# Altium footprint library TQFP.PcbLib: 9 footprints
Each footprint in its own frame and in the unit in brackets; x right, y up, seen from the top. Pads: shape width x height; smd on the part's side, far side on the other; paste and mask are expansions set on the pad; w line width, h text height; cw(c..) or ccw(c..) is an arc to the next point about the centre after c.
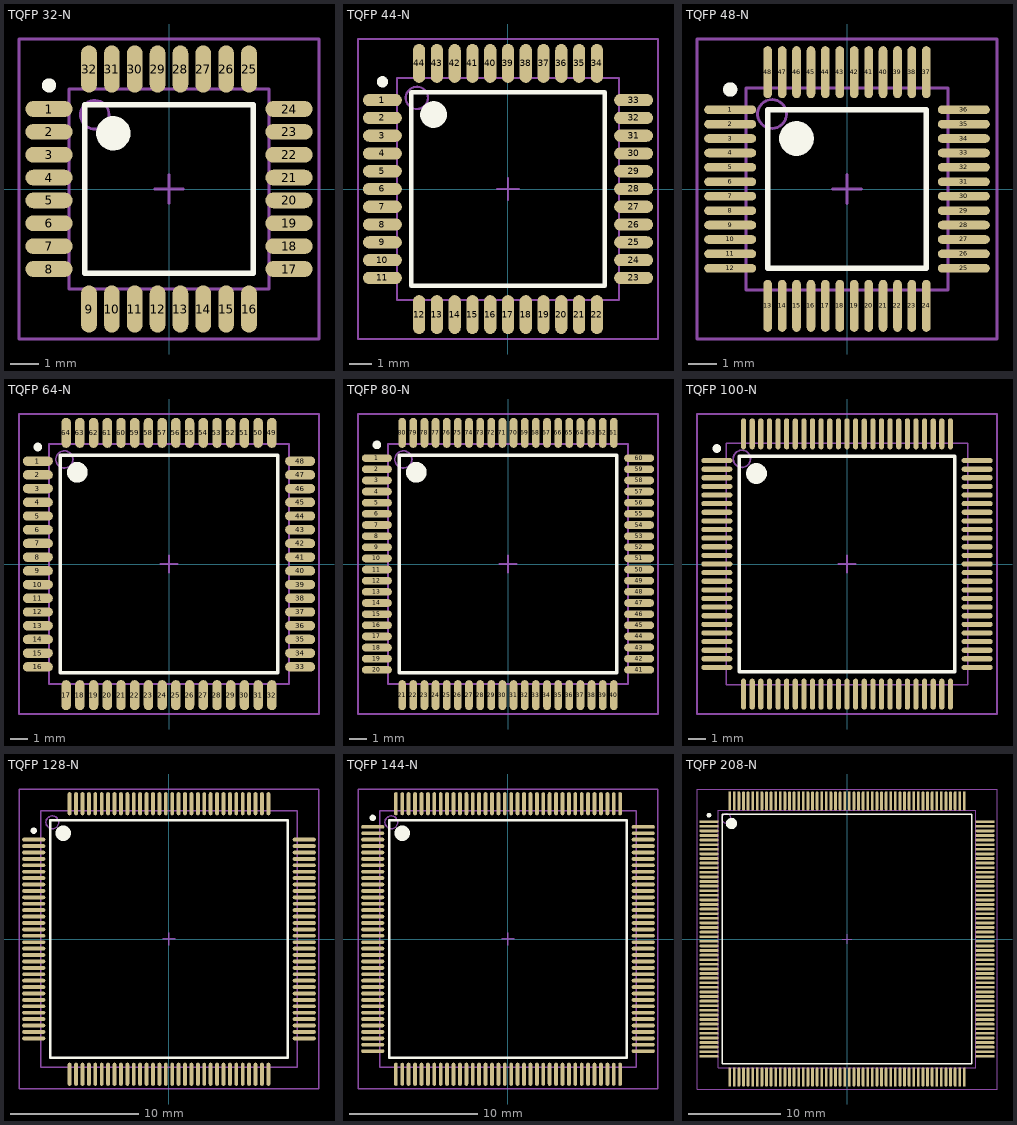
[diagram p0: the footprints below, top view; thin cyan lines are the x and y axes]

## TQFP 32-N [mm] "32-Pin Thin Quad Flat Pack 0.8 mm Pitch, IPC Medium Density"
height 1.2
pads (32):
  oval 1.65x0.55 smd: 1(-4.2,2.8) 2(-4.2,2) 3(-4.2,1.2) 4(-4.2,0.4) 5(-4.2,-0.4) 6(-4.2,-1.2) 7(-4.2,-2) 8(-4.2,-2.8) 17(4.2,-2.8) 18(4.2,-2) 19(4.2,-1.2) 20(4.2,-0.4) 21(4.2,0.4) 22(4.2,1.2) 23(4.2,2) 24(4.2,2.8)
  oval 0.55x1.65 smd: 9(-2.8,-4.2) 10(-2,-4.2) 11(-1.2,-4.2) 12(-0.4,-4.2) 13(0.4,-4.2) 14(1.2,-4.2) 15(2,-4.2) 16(2.8,-4.2) 25(2.8,4.2) 26(2,4.2) 27(1.2,4.2) 28(0.4,4.2) 29(-0.4,4.2) 30(-1.2,4.2) 31(-2,4.2) 32(-2.8,4.2)
Top Overlay:
  circle w0.25: c-4.2,3.625 r0.125
  circle w0.6: c-1.95,1.95 r0.3
  lines w0.2: -2.95,-2.95 -2.95,2.95 2.95,2.95 2.95,-2.95 -2.95,-2.95
Mechanical 13:
  circle w0.1: c-2.6,2.6 r0.5
  lines w0.1: -3.5,-3.5 -3.5,3.5 3.5,3.5 3.5,-3.5 -3.5,-3.5
Mechanical 15:
  lines w0.1: -0.5,0 0.5,0 ; 0,-0.5 0,0.5 ; -5.25,-5.25 -5.25,5.25 5.25,5.25 5.25,-5.25 -5.25,-5.25
3D body "User Library-TQFP32-1.step": height 1.1, standoff 0, extent -4.509,-4.509 4.509,4.509

## TQFP 44-N [mm] "44-Pin Thin Quad Flat Pack 0.8 mm Pitch, IPC Medium Density"
height 1.2
pads (44):
  oval 1.75x0.55 smd: 1(-5.65,4) 2(-5.65,3.2) 3(-5.65,2.4) 4(-5.65,1.6) 5(-5.65,0.8) 6(-5.65,0) 7(-5.65,-0.8) 8(-5.65,-1.6) 9(-5.65,-2.4) 10(-5.65,-3.2) 11(-5.65,-4) 23(5.65,-4) 24(5.65,-3.2) 25(5.65,-2.4) 26(5.65,-1.6) 27(5.65,-0.8) 28(5.65,0) 29(5.65,0.8) 30(5.65,1.6) 31(5.65,2.4) 32(5.65,3.2) 33(5.65,4)
  oval 0.55x1.75 smd: 12(-4,-5.65) 13(-3.2,-5.65) 14(-2.4,-5.65) 15(-1.6,-5.65) 16(-0.8,-5.65) 17(0,-5.65) 18(0.8,-5.65) 19(1.6,-5.65) 20(2.4,-5.65) 21(3.2,-5.65) 22(4,-5.65) 34(4,5.65) 35(3.2,5.65) 36(2.4,5.65) 37(1.6,5.65) 38(0.8,5.65) 39(0,5.65) 40(-0.8,5.65) 41(-1.6,5.65) 42(-2.4,5.65) 43(-3.2,5.65) 44(-4,5.65)
Top Overlay:
  circle w0.6: c-3.35,3.35 r0.3
  circle w0.25: c-5.65,4.825 r0.125
  lines w0.2: -4.35,-4.35 4.35,-4.35 4.35,4.35 -4.35,4.35 -4.35,-4.35
Mechanical 13:
  circle w0.1: c-4.1,4.1 r0.5
  lines w0.1: -5,-5 5,-5 5,5 -5,5 -5,-5
Mechanical 15:
  lines w0.1: -0.5,0 0.5,0 ; 0,-0.5 0,0.5 ; -6.75,-6.75 6.75,-6.75 6.75,6.75 -6.75,6.75 -6.75,-6.75
3D body "User Library-TQFP44-1.step": height 1.1, standoff 0, extent -6.009,-6.009 6.009,6.009

## TQFP 48-N [mm] "48-Pin Thin Quad Flat Pack 0.5 mm Pitch, IPC Medium Density"
height 1.6
pads (48):
  oval 1.8x0.3 smd: 1(-4.05,2.75) 2(-4.05,2.25) 3(-4.05,1.75) 4(-4.05,1.25) 5(-4.05,0.75) 6(-4.05,0.25) 7(-4.05,-0.25) 8(-4.05,-0.75) 9(-4.05,-1.25) 10(-4.05,-1.75) 11(-4.05,-2.25) 12(-4.05,-2.75) 25(4.05,-2.75) 26(4.05,-2.25) 27(4.05,-1.75) 28(4.05,-1.25) 29(4.05,-0.75) 30(4.05,-0.25) 31(4.05,0.25) 32(4.05,0.75) 33(4.05,1.25) 34(4.05,1.75) 35(4.05,2.25) 36(4.05,2.75)
  oval 0.3x1.8 smd: 13(-2.75,-4.05) 14(-2.25,-4.05) 15(-1.75,-4.05) 16(-1.25,-4.05) 17(-0.75,-4.05) 18(-0.25,-4.05) 19(0.25,-4.05) 20(0.75,-4.05) 21(1.25,-4.05) 22(1.75,-4.05) 23(2.25,-4.05) 24(2.75,-4.05) 37(2.75,4.05) 38(2.25,4.05) 39(1.75,4.05) 40(1.25,4.05) 41(0.75,4.05) 42(0.25,4.05) 43(-0.25,4.05) 44(-0.75,4.05) 45(-1.25,4.05) 46(-1.75,4.05) 47(-2.25,4.05) 48(-2.75,4.05)
Top Overlay:
  circle w0.25: c-4.05,3.45 r0.125
  circle w0.6: c-1.75,1.75 r0.3
  lines w0.2: -2.75,-2.75 -2.75,2.75 2.75,2.75 2.75,-2.75 -2.75,-2.75
Mechanical 13:
  circle w0.1: c-2.6,2.6 r0.5
  lines w0.1: -3.5,-3.5 -3.5,3.5 3.5,3.5 3.5,-3.5 -3.5,-3.5
Mechanical 15:
  lines w0.1: -0.5,0 0.5,0 ; 0,-0.5 0,0.5 ; -5.2,-5.2 -5.2,5.2 5.2,5.2 5.2,-5.2 -5.2,-5.2
3D body "User Library-TQFP48.step": height 1.1, standoff 0, extent -4.509,-4.509 4.509,4.509

## TQFP 64-N [mm] "64-Pin Thin Quad Flat Pack 0.8 mm Pitch, IPC Medium Density"
height 1.2
pads (64):
  oval 1.75x0.55 smd: 1(-7.65,6) 2(-7.65,5.2) 3(-7.65,4.4) 4(-7.65,3.6) 5(-7.65,2.8) 6(-7.65,2) 7(-7.65,1.2) 8(-7.65,0.4) 9(-7.65,-0.4) 10(-7.65,-1.2) 11(-7.65,-2) 12(-7.65,-2.8) 13(-7.65,-3.6) 14(-7.65,-4.4) 15(-7.65,-5.2) 16(-7.65,-6) 33(7.65,-6) 34(7.65,-5.2) 35(7.65,-4.4) 36(7.65,-3.6) 37(7.65,-2.8) 38(7.65,-2) 39(7.65,-1.2) 40(7.65,-0.4) 41(7.65,0.4) 42(7.65,1.2) 43(7.65,2) 44(7.65,2.8) 45(7.65,3.6) 46(7.65,4.4) 47(7.65,5.2) 48(7.65,6)
  oval 0.55x1.75 smd: 17(-6,-7.65) 18(-5.2,-7.65) 19(-4.4,-7.65) 20(-3.6,-7.65) 21(-2.8,-7.65) 22(-2,-7.65) 23(-1.2,-7.65) 24(-0.4,-7.65) 25(0.4,-7.65) 26(1.2,-7.65) 27(2,-7.65) 28(2.8,-7.65) 29(3.6,-7.65) 30(4.4,-7.65) 31(5.2,-7.65) 32(6,-7.65) 49(6,7.65) 50(5.2,7.65) 51(4.4,7.65) 52(3.6,7.65) 53(2.8,7.65) 54(2,7.65) 55(1.2,7.65) 56(0.4,7.65) 57(-0.4,7.65) 58(-1.2,7.65) 59(-2,7.65) 60(-2.8,7.65) 61(-3.6,7.65) 62(-4.4,7.65) 63(-5.2,7.65) 64(-6,7.65)
Top Overlay:
  circle w0.6: c-5.35,5.35 r0.3
  circle w0.25: c-7.65,6.825 r0.125
  lines w0.2: -6.35,-6.35 6.35,-6.35 6.35,6.35 -6.35,6.35 -6.35,-6.35
Mechanical 13:
  circle w0.1: c-6.1,6.1 r0.5
  lines w0.1: -7,-7 7,-7 7,7 -7,7 -7,-7
Mechanical 15:
  lines w0.1: -0.5,0 0.5,0 ; 0,-0.5 0,0.5 ; -8.75,-8.75 8.75,-8.75 8.75,8.75 -8.75,8.75 -8.75,-8.75
3D body "User Library-TQFP64-5.STEP": height 1.1, standoff 0, extent -8,-8 8,8

## TQFP 80-N [mm] "80-Pin Thin Quad Flat Pack 0.65 mm Pitch, IPC Medium Density"
height 1.6
pads (80):
  oval 1.75x0.45 smd: 1(-7.65,6.175) 2(-7.65,5.525) 3(-7.65,4.875) 4(-7.65,4.225) 5(-7.65,3.575) 6(-7.65,2.925) 7(-7.65,2.275) 8(-7.65,1.625) 9(-7.65,0.975) 10(-7.65,0.325) 11(-7.65,-0.325) 12(-7.65,-0.975) 13(-7.65,-1.625) 14(-7.65,-2.275) 15(-7.65,-2.925) 16(-7.65,-3.575) 17(-7.65,-4.225) 18(-7.65,-4.875) 19(-7.65,-5.525) 20(-7.65,-6.175) 41(7.65,-6.175) 42(7.65,-5.525) 43(7.65,-4.875) 44(7.65,-4.225) 45(7.65,-3.575) 46(7.65,-2.925) 47(7.65,-2.275) 48(7.65,-1.625) 49(7.65,-0.975) 50(7.65,-0.325) 51(7.65,0.325) 52(7.65,0.975) 53(7.65,1.625) 54(7.65,2.275) 55(7.65,2.925) 56(7.65,3.575) 57(7.65,4.225) 58(7.65,4.875) 59(7.65,5.525) 60(7.65,6.175)
  oval 0.45x1.75 smd: 21(-6.175,-7.65) 22(-5.525,-7.65) 23(-4.875,-7.65) 24(-4.225,-7.65) 25(-3.575,-7.65) 26(-2.925,-7.65) 27(-2.275,-7.65) 28(-1.625,-7.65) 29(-0.975,-7.65) 30(-0.325,-7.65) 31(0.325,-7.65) 32(0.975,-7.65) 33(1.625,-7.65) 34(2.275,-7.65) 35(2.925,-7.65) 36(3.575,-7.65) 37(4.225,-7.65) 38(4.875,-7.65) 39(5.525,-7.65) 40(6.175,-7.65) 61(6.175,7.65) 62(5.525,7.65) 63(4.875,7.65) 64(4.225,7.65) 65(3.575,7.65) 66(2.925,7.65) 67(2.275,7.65) 68(1.625,7.65) 69(0.975,7.65) 70(0.325,7.65) 71(-0.325,7.65) 72(-0.975,7.65) 73(-1.625,7.65) 74(-2.275,7.65) 75(-2.925,7.65) 76(-3.575,7.65) 77(-4.225,7.65) 78(-4.875,7.65) 79(-5.525,7.65) 80(-6.175,7.65)
Top Overlay:
  circle w0.6: c-5.35,5.35 r0.3
  circle w0.25: c-7.65,6.95 r0.125
  lines w0.2: -6.35,-6.35 6.35,-6.35 6.35,6.35 -6.35,6.35 -6.35,-6.35
Mechanical 13:
  circle w0.1: c-6.1,6.1 r0.5
  lines w0.1: -7,-7 7,-7 7,7 -7,7 -7,-7
Mechanical 15:
  lines w0.1: -0.5,0 0.5,0 ; 0,-0.5 0,0.5 ; -8.75,-8.75 8.75,-8.75 8.75,8.75 -8.75,8.75 -8.75,-8.75

## TQFP 100-N [mm] "100-Pin Plastic Thin Quad Flat Pack (TQFP100), IPC Medium Density"
height 1.2
pads (100):
  oval 1.8x0.3 smd: 1(-7.55,6) 2(-7.55,5.5) 3(-7.55,5) 4(-7.55,4.5) 5(-7.55,4) 6(-7.55,3.5) 7(-7.55,3) 8(-7.55,2.5) 9(-7.55,2) 10(-7.55,1.5) 11(-7.55,1) 12(-7.55,0.5) 13(-7.55,0) 14(-7.55,-0.5) 15(-7.55,-1) 16(-7.55,-1.5) 17(-7.55,-2) 18(-7.55,-2.5) 19(-7.55,-3) 20(-7.55,-3.5) 21(-7.55,-4) 22(-7.55,-4.5) 23(-7.55,-5) 24(-7.55,-5.5) 25(-7.55,-6) 51(7.55,-6) 52(7.55,-5.5) 53(7.55,-5) 54(7.55,-4.5) 55(7.55,-4) 56(7.55,-3.5) 57(7.55,-3) 58(7.55,-2.5) 59(7.55,-2) 60(7.55,-1.5) 61(7.55,-1) 62(7.55,-0.5) 63(7.55,0) 64(7.55,0.5) 65(7.55,1) 66(7.55,1.5) 67(7.55,2) 68(7.55,2.5) 69(7.55,3) 70(7.55,3.5) 71(7.55,4) 72(7.55,4.5) 73(7.55,5) 74(7.55,5.5) 75(7.55,6)
  oval 0.3x1.8 smd: 26(-6,-7.55) 27(-5.5,-7.55) 28(-5,-7.55) 29(-4.5,-7.55) 30(-4,-7.55) 31(-3.5,-7.55) 32(-3,-7.55) 33(-2.5,-7.55) 34(-2,-7.55) 35(-1.5,-7.55) 36(-1,-7.55) 37(-0.5,-7.55) 38(0,-7.55) 39(0.5,-7.55) 40(1,-7.55) 41(1.5,-7.55) 42(2,-7.55) 43(2.5,-7.55) 44(3,-7.55) 45(3.5,-7.55) 46(4,-7.55) 47(4.5,-7.55) 48(5,-7.55) 49(5.5,-7.55) 50(6,-7.55) 76(6,7.55) 77(5.5,7.55) 78(5,7.55) 79(4.5,7.55) 80(4,7.55) 81(3.5,7.55) 82(3,7.55) 83(2.5,7.55) 84(2,7.55) 85(1.5,7.55) 86(1,7.55) 87(0.5,7.55) 88(0,7.55) 89(-0.5,7.55) 90(-1,7.55) 91(-1.5,7.55) 92(-2,7.55) 93(-2.5,7.55) 94(-3,7.55) 95(-3.5,7.55) 96(-4,7.55) 97(-4.5,7.55) 98(-5,7.55) 99(-5.5,7.55) 100(-6,7.55)
Top Overlay:
  circle w0.25: c-7.55,6.7 r0.125
  circle w0.6: c-5.25,5.25 r0.3
  lines w0.2: -6.25,-6.25 -6.25,6.25 6.25,6.25 6.25,-6.25 -6.25,-6.25
Mechanical 13:
  circle w0.1: c-6.1,6.1 r0.5
  lines w0.1: -7,-7 -7,7 7,7 7,-7 -7,-7
Mechanical 15:
  lines w0.1: -0.5,0 0.5,0 ; 0,-0.5 0,0.5 ; -8.7,-8.7 -8.7,8.7 8.7,8.7 8.7,-8.7 -8.7,-8.7
3D body "User Library-TQFP100-2.step": height 1.1, standoff 0, extent -8.009,-8.009 8.009,8.009

## TQFP 128-N [mm] "128-Pin Thin Quad Flat Pack 0.5 mm Pitch, IPC Medium Density"
height 1.6
pads (128):
  oval 1.8x0.3 smd: 1(-10.55,7.75) 2(-10.55,7.25) 3(-10.55,6.75) 4(-10.55,6.25) 5(-10.55,5.75) 6(-10.55,5.25) 7(-10.55,4.75) 8(-10.55,4.25) 9(-10.55,3.75) 10(-10.55,3.25) 11(-10.55,2.75) 12(-10.55,2.25) 13(-10.55,1.75) 14(-10.55,1.25) 15(-10.55,0.75) 16(-10.55,0.25) 17(-10.55,-0.25) 18(-10.55,-0.75) 19(-10.55,-1.25) 20(-10.55,-1.75) 21(-10.55,-2.25) 22(-10.55,-2.75) 23(-10.55,-3.25) 24(-10.55,-3.75) 25(-10.55,-4.25) 26(-10.55,-4.75) 27(-10.55,-5.25) 28(-10.55,-5.75) 29(-10.55,-6.25) 30(-10.55,-6.75) 31(-10.55,-7.25) 32(-10.55,-7.75) 65(10.55,-7.75) 66(10.55,-7.25) 67(10.55,-6.75) 68(10.55,-6.25) 69(10.55,-5.75) 70(10.55,-5.25) 71(10.55,-4.75) 72(10.55,-4.25) 73(10.55,-3.75) 74(10.55,-3.25) 75(10.55,-2.75) 76(10.55,-2.25) 77(10.55,-1.75) 78(10.55,-1.25) 79(10.55,-0.75) 80(10.55,-0.25) 81(10.55,0.25) 82(10.55,0.75) 83(10.55,1.25) 84(10.55,1.75) 85(10.55,2.25) 86(10.55,2.75) 87(10.55,3.25) 88(10.55,3.75) 89(10.55,4.25) 90(10.55,4.75) 91(10.55,5.25) 92(10.55,5.75) 93(10.55,6.25) 94(10.55,6.75) 95(10.55,7.25) 96(10.55,7.75)
  oval 0.3x1.8 smd: 33(-7.75,-10.55) 34(-7.25,-10.55) 35(-6.75,-10.55) 36(-6.25,-10.55) 37(-5.75,-10.55) 38(-5.25,-10.55) 39(-4.75,-10.55) 40(-4.25,-10.55) 41(-3.75,-10.55) 42(-3.25,-10.55) 43(-2.75,-10.55) 44(-2.25,-10.55) 45(-1.75,-10.55) 46(-1.25,-10.55) 47(-0.75,-10.55) 48(-0.25,-10.55) 49(0.25,-10.55) 50(0.75,-10.55) 51(1.25,-10.55) 52(1.75,-10.55) 53(2.25,-10.55) 54(2.75,-10.55) 55(3.25,-10.55) 56(3.75,-10.55) 57(4.25,-10.55) 58(4.75,-10.55) 59(5.25,-10.55) 60(5.75,-10.55) 61(6.25,-10.55) 62(6.75,-10.55) 63(7.25,-10.55) 64(7.75,-10.55) 97(7.75,10.55) 98(7.25,10.55) 99(6.75,10.55) 100(6.25,10.55) 101(5.75,10.55) 102(5.25,10.55) 103(4.75,10.55) 104(4.25,10.55) 105(3.75,10.55) 106(3.25,10.55) 107(2.75,10.55) 108(2.25,10.55) 109(1.75,10.55) 110(1.25,10.55) 111(0.75,10.55) 112(0.25,10.55) 113(-0.25,10.55) 114(-0.75,10.55) 115(-1.25,10.55) 116(-1.75,10.55) 117(-2.25,10.55) 118(-2.75,10.55) 119(-3.25,10.55) 120(-3.75,10.55) 121(-4.25,10.55) 122(-4.75,10.55) 123(-5.25,10.55) 124(-5.75,10.55) 125(-6.25,10.55) 126(-6.75,10.55) 127(-7.25,10.55) 128(-7.75,10.55)
Top Overlay:
  circle w0.6: c-8.25,8.25 r0.3
  circle w0.25: c-10.55,8.45 r0.125
  lines w0.2: -9.25,-9.25 9.25,-9.25 9.25,9.25 -9.25,9.25 -9.25,-9.25
Mechanical 13:
  circle w0.1: c-9.1,9.1 r0.5
  lines w0.1: -10,-10 10,-10 10,10 -10,10 -10,-10
Mechanical 15:
  lines w0.1: -0.5,0 0.5,0 ; 0,-0.5 0,0.5 ; -11.7,-11.7 11.7,-11.7 11.7,11.7 -11.7,11.7 -11.7,-11.7

## TQFP 144-N [mm] "144-Pin Thin Quad Flat Pack 0.5 mm Pitch, IPC Medium Density"
height 1.6
pads (144):
  oval 1.8x0.3 smd: 1(-10.55,8.75) 2(-10.55,8.25) 3(-10.55,7.75) 4(-10.55,7.25) 5(-10.55,6.75) 6(-10.55,6.25) 7(-10.55,5.75) 8(-10.55,5.25) 9(-10.55,4.75) 10(-10.55,4.25) 11(-10.55,3.75) 12(-10.55,3.25) 13(-10.55,2.75) 14(-10.55,2.25) 15(-10.55,1.75) 16(-10.55,1.25) 17(-10.55,0.75) 18(-10.55,0.25) 19(-10.55,-0.25) 20(-10.55,-0.75) 21(-10.55,-1.25) 22(-10.55,-1.75) 23(-10.55,-2.25) 24(-10.55,-2.75) 25(-10.55,-3.25) 26(-10.55,-3.75) 27(-10.55,-4.25) 28(-10.55,-4.75) 29(-10.55,-5.25) 30(-10.55,-5.75) 31(-10.55,-6.25) 32(-10.55,-6.75) 33(-10.55,-7.25) 34(-10.55,-7.75) 35(-10.55,-8.25) 36(-10.55,-8.75) 73(10.55,-8.75) 74(10.55,-8.25) 75(10.55,-7.75) 76(10.55,-7.25) 77(10.55,-6.75) 78(10.55,-6.25) 79(10.55,-5.75) 80(10.55,-5.25) 81(10.55,-4.75) 82(10.55,-4.25) 83(10.55,-3.75) 84(10.55,-3.25) 85(10.55,-2.75) 86(10.55,-2.25) 87(10.55,-1.75) 88(10.55,-1.25) 89(10.55,-0.75) 90(10.55,-0.25) 91(10.55,0.25) 92(10.55,0.75) 93(10.55,1.25) 94(10.55,1.75) 95(10.55,2.25) 96(10.55,2.75) 97(10.55,3.25) 98(10.55,3.75) 99(10.55,4.25) 100(10.55,4.75) 101(10.55,5.25) 102(10.55,5.75) 103(10.55,6.25) 104(10.55,6.75) 105(10.55,7.25) 106(10.55,7.75) 107(10.55,8.25) 108(10.55,8.75)
  oval 0.3x1.8 smd: 37(-8.75,-10.55) 38(-8.25,-10.55) 39(-7.75,-10.55) 40(-7.25,-10.55) 41(-6.75,-10.55) 42(-6.25,-10.55) 43(-5.75,-10.55) 44(-5.25,-10.55) 45(-4.75,-10.55) 46(-4.25,-10.55) 47(-3.75,-10.55) 48(-3.25,-10.55) 49(-2.75,-10.55) 50(-2.25,-10.55) 51(-1.75,-10.55) 52(-1.25,-10.55) 53(-0.75,-10.55) 54(-0.25,-10.55) 55(0.25,-10.55) 56(0.75,-10.55) 57(1.25,-10.55) 58(1.75,-10.55) 59(2.25,-10.55) 60(2.75,-10.55) 61(3.25,-10.55) 62(3.75,-10.55) 63(4.25,-10.55) 64(4.75,-10.55) 65(5.25,-10.55) 66(5.75,-10.55) 67(6.25,-10.55) 68(6.75,-10.55) 69(7.25,-10.55) 70(7.75,-10.55) 71(8.25,-10.55) 72(8.75,-10.55) 109(8.75,10.55) 110(8.25,10.55) 111(7.75,10.55) 112(7.25,10.55) 113(6.75,10.55) 114(6.25,10.55) 115(5.75,10.55) 116(5.25,10.55) 117(4.75,10.55) 118(4.25,10.55) 119(3.75,10.55) 120(3.25,10.55) 121(2.75,10.55) 122(2.25,10.55) 123(1.75,10.55) 124(1.25,10.55) 125(0.75,10.55) 126(0.25,10.55) 127(-0.25,10.55) 128(-0.75,10.55) 129(-1.25,10.55) 130(-1.75,10.55) 131(-2.25,10.55) 132(-2.75,10.55) 133(-3.25,10.55) 134(-3.75,10.55) 135(-4.25,10.55) 136(-4.75,10.55) 137(-5.25,10.55) 138(-5.75,10.55) 139(-6.25,10.55) 140(-6.75,10.55) 141(-7.25,10.55) 142(-7.75,10.55) 143(-8.25,10.55) 144(-8.75,10.55)
Top Overlay:
  circle w0.25: c-10.55,9.45 r0.125
  circle w0.6: c-8.25,8.25 r0.3
  lines w0.2: -9.25,-9.25 -9.25,9.25 9.25,9.25 9.25,-9.25 -9.25,-9.25
Mechanical 13:
  circle w0.1: c-9.1,9.1 r0.5
  lines w0.1: -10,-10 -10,10 10,10 10,-10 -10,-10
Mechanical 15:
  lines w0.1: -0.5,0 0.5,0 ; 0,-0.5 0,0.5 ; -11.7,-11.7 -11.7,11.7 11.7,11.7 11.7,-11.7 -11.7,-11.7
3D body "User Library-TQFP144.step": height 1.1, standoff 0, extent -11.009,-11.009 11.009,11.009

## TQFP 208-N [mm] "208-Pin Plastic Shrink Quad Flat Pack 0.5 mm Pitch, IPC Medium Density"
height 4.3
pads (208):
  oval 2.1x0.3 smd: 1(-15,12.75) 2(-15,12.25) 3(-15,11.75) 4(-15,11.25) 5(-15,10.75) 6(-15,10.25) 7(-15,9.75) 8(-15,9.25) 9(-15,8.75) 10(-15,8.25) 11(-15,7.75) 12(-15,7.25) 13(-15,6.75) 14(-15,6.25) 15(-15,5.75) 16(-15,5.25) 17(-15,4.75) 18(-15,4.25) 19(-15,3.75) 20(-15,3.25) 21(-15,2.75) 22(-15,2.25) 23(-15,1.75) 24(-15,1.25) 25(-15,0.75) 26(-15,0.25) 27(-15,-0.25) 28(-15,-0.75) 29(-15,-1.25) 30(-15,-1.75) 31(-15,-2.25) 32(-15,-2.75) 33(-15,-3.25) 34(-15,-3.75) 35(-15,-4.25) 36(-15,-4.75) 37(-15,-5.25) 38(-15,-5.75) 39(-15,-6.25) 40(-15,-6.75) 41(-15,-7.25) 42(-15,-7.75) 43(-15,-8.25) 44(-15,-8.75) 45(-15,-9.25) 46(-15,-9.75) 47(-15,-10.25) 48(-15,-10.75) 49(-15,-11.25) 50(-15,-11.75) 51(-15,-12.25) 52(-15,-12.75) 105(15,-12.75) 106(15,-12.25) 107(15,-11.75) 108(15,-11.25) 109(15,-10.75) 110(15,-10.25) 111(15,-9.75) 112(15,-9.25) 113(15,-8.75) 114(15,-8.25) 115(15,-7.75) 116(15,-7.25) 117(15,-6.75) 118(15,-6.25) 119(15,-5.75) 120(15,-5.25) 121(15,-4.75) 122(15,-4.25) 123(15,-3.75) 124(15,-3.25) 125(15,-2.75) 126(15,-2.25) 127(15,-1.75) 128(15,-1.25) 129(15,-0.75) 130(15,-0.25) 131(15,0.25) 132(15,0.75) 133(15,1.25) 134(15,1.75) 135(15,2.25) 136(15,2.75) 137(15,3.25) 138(15,3.75) 139(15,4.25) 140(15,4.75) 141(15,5.25) 142(15,5.75) 143(15,6.25) 144(15,6.75) 145(15,7.25) 146(15,7.75) 147(15,8.25) 148(15,8.75) 149(15,9.25) 150(15,9.75) 151(15,10.25) 152(15,10.75) 153(15,11.25) 154(15,11.75) 155(15,12.25) 156(15,12.75)
  oval 0.3x2.1 smd: 53(-12.75,-15) 54(-12.25,-15) 55(-11.75,-15) 56(-11.25,-15) 57(-10.75,-15) 58(-10.25,-15) 59(-9.75,-15) 60(-9.25,-15) 61(-8.75,-15) 62(-8.25,-15) 63(-7.75,-15) 64(-7.25,-15) 65(-6.75,-15) 66(-6.25,-15) 67(-5.75,-15) 68(-5.25,-15) 69(-4.75,-15) 70(-4.25,-15) 71(-3.75,-15) 72(-3.25,-15) 73(-2.75,-15) 74(-2.25,-15) 75(-1.75,-15) 76(-1.25,-15) 77(-0.75,-15) 78(-0.25,-15) 79(0.25,-15) 80(0.75,-15) 81(1.25,-15) 82(1.75,-15) 83(2.25,-15) 84(2.75,-15) 85(3.25,-15) 86(3.75,-15) 87(4.25,-15) 88(4.75,-15) 89(5.25,-15) 90(5.75,-15) 91(6.25,-15) 92(6.75,-15) 93(7.25,-15) 94(7.75,-15) 95(8.25,-15) 96(8.75,-15) 97(9.25,-15) 98(9.75,-15) 99(10.25,-15) 100(10.75,-15) 101(11.25,-15) 102(11.75,-15) 103(12.25,-15) 104(12.75,-15) 157(12.75,15) 158(12.25,15) 159(11.75,15) 160(11.25,15) 161(10.75,15) 162(10.25,15) 163(9.75,15) 164(9.25,15) 165(8.75,15) 166(8.25,15) 167(7.75,15) 168(7.25,15) 169(6.75,15) 170(6.25,15) 171(5.75,15) 172(5.25,15) 173(4.75,15) 174(4.25,15) 175(3.75,15) 176(3.25,15) 177(2.75,15) 178(2.25,15) 179(1.75,15) 180(1.25,15) 181(0.75,15) 182(0.25,15) 183(-0.25,15) 184(-0.75,15) 185(-1.25,15) 186(-1.75,15) 187(-2.25,15) 188(-2.75,15) 189(-3.25,15) 190(-3.75,15) 191(-4.25,15) 192(-4.75,15) 193(-5.25,15) 194(-5.75,15) 195(-6.25,15) 196(-6.75,15) 197(-7.25,15) 198(-7.75,15) 199(-8.25,15) 200(-8.75,15) 201(-9.25,15) 202(-9.75,15) 203(-10.25,15) 204(-10.75,15) 205(-11.25,15) 206(-11.75,15) 207(-12.25,15) 208(-12.75,15)
Top Overlay:
  circle w0.6: c-12.55,12.55 r0.3
  circle w0.25: c-15,13.45 r0.125
  lines w0.2: -13.55,-13.55 13.55,-13.55 13.55,13.55 -13.55,13.55 -13.55,-13.55
Mechanical 13:
  circle w0.1: c-13.1,13.1 r0.5
  lines w0.1: -14,-14 14,-14 14,14 -14,14 -14,-14
Mechanical 15:
  lines w0.1: -0.5,0 0.5,0 ; 0,-0.5 0,0.5 ; -16.3,-16.3 16.3,-16.3 16.3,16.3 -16.3,16.3 -16.3,-16.3